# Altium footprint library Tranzistor.PcbLib: 241 footprints (part 5 of 16)
Each footprint in its own frame and in the unit in brackets; x right, y up, seen from the top. Pads: shape width x height; smd on the part's side, far side on the other; paste and mask are expansions set on the pad; w line width, h text height; cw(c..) or ccw(c..) is an arc to the next point about the centre after c.
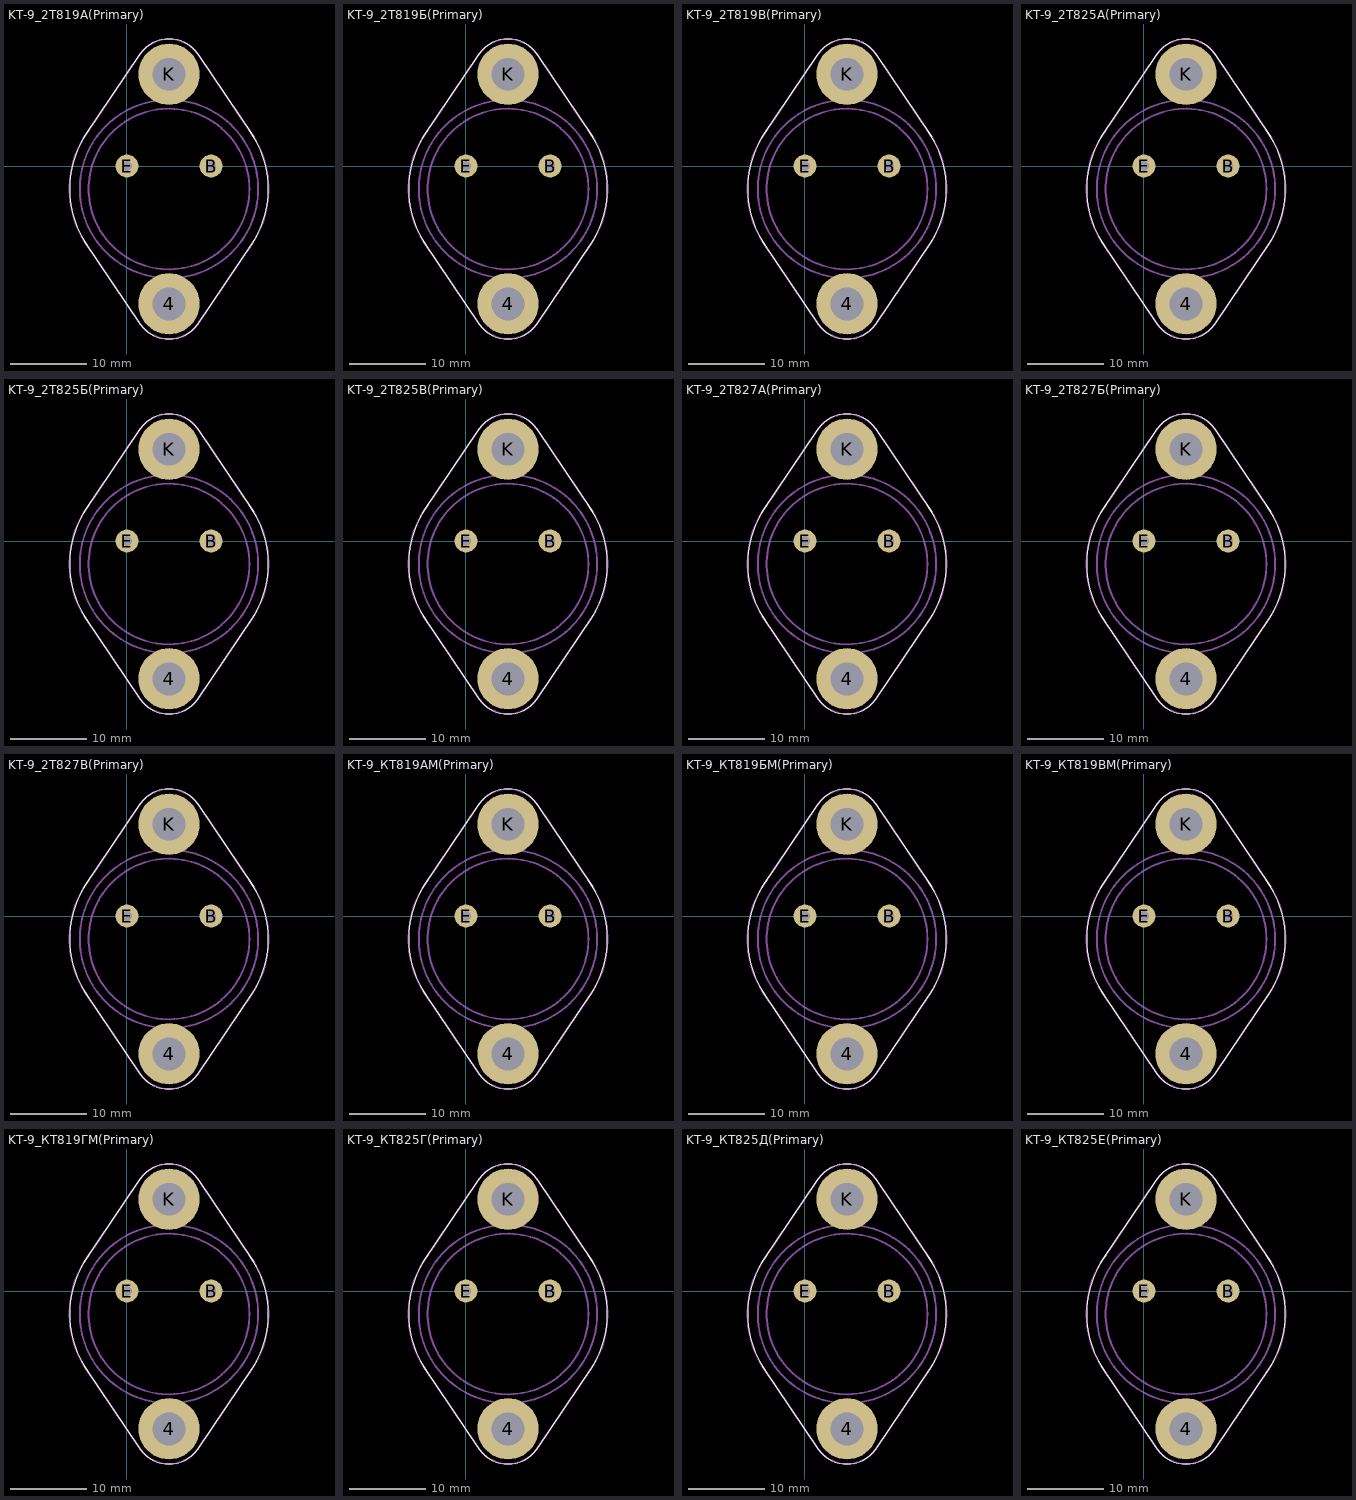
[diagram p4: the footprints below, top view; thin cyan lines are the x and y axes]

## KT-9_2Т819А(Primary) [mm]
pads (4):
  round 8 hole 4.3: 4(5.5,-18) K(5.5,12)
  round 3 hole 1.3: B(11,0) E(0,0)
Top Overlay:
  lines w0.1: -5.547,-9.854 1.762,-20.681 ; -5.547,3.855 1.762,14.683 ; -4.991,-10.677 cw(c5.5,-2.999) -4.978,4.697 ; 1.611,-20.457 ccw(c5.5,-17.999) 9.383,-20.464 ; 1.616,14.466 cw(c5.5,12.001) 9.388,14.459 ; 9.237,-20.681 16.546,-9.854 ; 9.237,14.683 16.546,3.855 ; 15.977,-10.695 ccw(c5.5,-2.999) 15.99,4.679
Mechanical 1:
  circle w0.25: c5.5,-2.999 r11.654
  circle w0.25: c5.5,-2.999 r10.5
  circle w0.25: c5.5,12.001 r2.05
  circle w0.25: c5.5,-17.999 r2.05
  lines w0.25: -5.547,-9.854 1.762,-20.681 ; -5.547,3.855 1.762,14.683 ; -4.991,-10.677 cw(c5.5,-2.999) -4.978,4.697 ; 1.611,-20.457 ccw(c5.5,-17.999) 9.383,-20.464 ; 1.616,14.466 cw(c5.5,12.001) 9.388,14.459 ; 9.237,-20.681 16.546,-9.854 ; 9.237,14.683 16.546,3.855 ; 15.977,-10.695 ccw(c5.5,-2.999) 15.99,4.679
  text "К" at 10,8.75 h1.5
  text "Б" at 10.5,1.75 h1.5
  text "Э" at -0.5,1.75 h1.5

## KT-9_2Т819Б(Primary) [mm]
pads (4):
  round 8 hole 4.3: 4(5.5,-18) K(5.5,12)
  round 3 hole 1.3: B(11,0) E(0,0)
Top Overlay:
  lines w0.1: -5.547,-9.854 1.762,-20.681 ; -5.547,3.855 1.762,14.683 ; -4.991,-10.677 cw(c5.5,-2.999) -4.978,4.697 ; 1.611,-20.457 ccw(c5.5,-17.999) 9.383,-20.464 ; 1.616,14.466 cw(c5.5,12.001) 9.388,14.459 ; 9.237,-20.681 16.546,-9.854 ; 9.237,14.683 16.546,3.855 ; 15.977,-10.695 ccw(c5.5,-2.999) 15.99,4.679
Mechanical 1:
  circle w0.25: c5.5,-2.999 r11.654
  circle w0.25: c5.5,-2.999 r10.5
  circle w0.25: c5.5,12.001 r2.05
  circle w0.25: c5.5,-17.999 r2.05
  lines w0.25: -5.547,-9.854 1.762,-20.681 ; -5.547,3.855 1.762,14.683 ; -4.991,-10.677 cw(c5.5,-2.999) -4.978,4.697 ; 1.611,-20.457 ccw(c5.5,-17.999) 9.383,-20.464 ; 1.616,14.466 cw(c5.5,12.001) 9.388,14.459 ; 9.237,-20.681 16.546,-9.854 ; 9.237,14.683 16.546,3.855 ; 15.977,-10.695 ccw(c5.5,-2.999) 15.99,4.679
  text "К" at 10,8.75 h1.5
  text "Б" at 10.5,1.75 h1.5
  text "Э" at -0.5,1.75 h1.5

## KT-9_2Т819В(Primary) [mm]
pads (4):
  round 8 hole 4.3: 4(5.5,-18) K(5.5,12)
  round 3 hole 1.3: B(11,0) E(0,0)
Top Overlay:
  lines w0.1: -5.547,-9.854 1.762,-20.681 ; -5.547,3.855 1.762,14.683 ; -4.991,-10.677 cw(c5.5,-2.999) -4.978,4.697 ; 1.611,-20.457 ccw(c5.5,-17.999) 9.383,-20.464 ; 1.616,14.466 cw(c5.5,12.001) 9.388,14.459 ; 9.237,-20.681 16.546,-9.854 ; 9.237,14.683 16.546,3.855 ; 15.977,-10.695 ccw(c5.5,-2.999) 15.99,4.679
Mechanical 1:
  circle w0.25: c5.5,-2.999 r11.654
  circle w0.25: c5.5,-2.999 r10.5
  circle w0.25: c5.5,12.001 r2.05
  circle w0.25: c5.5,-17.999 r2.05
  lines w0.25: -5.547,-9.854 1.762,-20.681 ; -5.547,3.855 1.762,14.683 ; -4.991,-10.677 cw(c5.5,-2.999) -4.978,4.697 ; 1.611,-20.457 ccw(c5.5,-17.999) 9.383,-20.464 ; 1.616,14.466 cw(c5.5,12.001) 9.388,14.459 ; 9.237,-20.681 16.546,-9.854 ; 9.237,14.683 16.546,3.855 ; 15.977,-10.695 ccw(c5.5,-2.999) 15.99,4.679
  text "К" at 10,8.75 h1.5
  text "Б" at 10.5,1.75 h1.5
  text "Э" at -0.5,1.75 h1.5

## KT-9_2Т825А(Primary) [mm]
pads (4):
  round 8 hole 4.3: 4(5.5,-18) K(5.5,12)
  round 3 hole 1.3: B(11,0) E(0,0)
Top Overlay:
  lines w0.1: -5.547,-9.854 1.762,-20.681 ; -5.547,3.855 1.762,14.683 ; -4.991,-10.677 cw(c5.5,-2.999) -4.978,4.697 ; 1.611,-20.457 ccw(c5.5,-17.999) 9.383,-20.464 ; 1.616,14.466 cw(c5.5,12.001) 9.388,14.459 ; 9.237,-20.681 16.546,-9.854 ; 9.237,14.683 16.546,3.855 ; 15.977,-10.695 ccw(c5.5,-2.999) 15.99,4.679
Mechanical 1:
  circle w0.25: c5.5,-2.999 r11.654
  circle w0.25: c5.5,-2.999 r10.5
  circle w0.25: c5.5,12.001 r2.05
  circle w0.25: c5.5,-17.999 r2.05
  lines w0.25: -5.547,-9.854 1.762,-20.681 ; -5.547,3.855 1.762,14.683 ; -4.991,-10.677 cw(c5.5,-2.999) -4.978,4.697 ; 1.611,-20.457 ccw(c5.5,-17.999) 9.383,-20.464 ; 1.616,14.466 cw(c5.5,12.001) 9.388,14.459 ; 9.237,-20.681 16.546,-9.854 ; 9.237,14.683 16.546,3.855 ; 15.977,-10.695 ccw(c5.5,-2.999) 15.99,4.679
  text "К" at 10,8.75 h1.5
  text "Б" at 10.5,1.75 h1.5
  text "Э" at -0.5,1.75 h1.5

## KT-9_2Т825Б(Primary) [mm]
pads (4):
  round 8 hole 4.3: 4(5.5,-18) K(5.5,12)
  round 3 hole 1.3: B(11,0) E(0,0)
Top Overlay:
  lines w0.1: -5.547,-9.854 1.762,-20.681 ; -5.547,3.855 1.762,14.683 ; -4.991,-10.677 cw(c5.5,-2.999) -4.978,4.697 ; 1.611,-20.457 ccw(c5.5,-17.999) 9.383,-20.464 ; 1.616,14.466 cw(c5.5,12.001) 9.388,14.459 ; 9.237,-20.681 16.546,-9.854 ; 9.237,14.683 16.546,3.855 ; 15.977,-10.695 ccw(c5.5,-2.999) 15.99,4.679
Mechanical 1:
  circle w0.25: c5.5,-2.999 r11.654
  circle w0.25: c5.5,-2.999 r10.5
  circle w0.25: c5.5,12.001 r2.05
  circle w0.25: c5.5,-17.999 r2.05
  lines w0.25: -5.547,-9.854 1.762,-20.681 ; -5.547,3.855 1.762,14.683 ; -4.991,-10.677 cw(c5.5,-2.999) -4.978,4.697 ; 1.611,-20.457 ccw(c5.5,-17.999) 9.383,-20.464 ; 1.616,14.466 cw(c5.5,12.001) 9.388,14.459 ; 9.237,-20.681 16.546,-9.854 ; 9.237,14.683 16.546,3.855 ; 15.977,-10.695 ccw(c5.5,-2.999) 15.99,4.679
  text "К" at 10,8.75 h1.5
  text "Б" at 10.5,1.75 h1.5
  text "Э" at -0.5,1.75 h1.5

## KT-9_2Т825В(Primary) [mm]
pads (4):
  round 8 hole 4.3: 4(5.5,-18) K(5.5,12)
  round 3 hole 1.3: B(11,0) E(0,0)
Top Overlay:
  lines w0.1: -5.547,-9.854 1.762,-20.681 ; -5.547,3.855 1.762,14.683 ; -4.991,-10.677 cw(c5.5,-2.999) -4.978,4.697 ; 1.611,-20.457 ccw(c5.5,-17.999) 9.383,-20.464 ; 1.616,14.466 cw(c5.5,12.001) 9.388,14.459 ; 9.237,-20.681 16.546,-9.854 ; 9.237,14.683 16.546,3.855 ; 15.977,-10.695 ccw(c5.5,-2.999) 15.99,4.679
Mechanical 1:
  circle w0.25: c5.5,-2.999 r11.654
  circle w0.25: c5.5,-2.999 r10.5
  circle w0.25: c5.5,12.001 r2.05
  circle w0.25: c5.5,-17.999 r2.05
  lines w0.25: -5.547,-9.854 1.762,-20.681 ; -5.547,3.855 1.762,14.683 ; -4.991,-10.677 cw(c5.5,-2.999) -4.978,4.697 ; 1.611,-20.457 ccw(c5.5,-17.999) 9.383,-20.464 ; 1.616,14.466 cw(c5.5,12.001) 9.388,14.459 ; 9.237,-20.681 16.546,-9.854 ; 9.237,14.683 16.546,3.855 ; 15.977,-10.695 ccw(c5.5,-2.999) 15.99,4.679
  text "К" at 10,8.75 h1.5
  text "Б" at 10.5,1.75 h1.5
  text "Э" at -0.5,1.75 h1.5

## KT-9_2Т827А(Primary) [mm]
pads (4):
  round 8 hole 4.3: 4(5.5,-18) K(5.5,12)
  round 3 hole 1.3: B(11,0) E(0,0)
Top Overlay:
  lines w0.1: -5.547,-9.854 1.762,-20.681 ; -5.547,3.855 1.762,14.683 ; -4.991,-10.677 cw(c5.5,-2.999) -4.978,4.697 ; 1.611,-20.457 ccw(c5.5,-17.999) 9.383,-20.464 ; 1.616,14.466 cw(c5.5,12.001) 9.388,14.459 ; 9.237,-20.681 16.546,-9.854 ; 9.237,14.683 16.546,3.855 ; 15.977,-10.695 ccw(c5.5,-2.999) 15.99,4.679
Mechanical 1:
  circle w0.25: c5.5,-2.999 r11.654
  circle w0.25: c5.5,-2.999 r10.5
  circle w0.25: c5.5,12.001 r2.05
  circle w0.25: c5.5,-17.999 r2.05
  lines w0.25: -5.547,-9.854 1.762,-20.681 ; -5.547,3.855 1.762,14.683 ; -4.991,-10.677 cw(c5.5,-2.999) -4.978,4.697 ; 1.611,-20.457 ccw(c5.5,-17.999) 9.383,-20.464 ; 1.616,14.466 cw(c5.5,12.001) 9.388,14.459 ; 9.237,-20.681 16.546,-9.854 ; 9.237,14.683 16.546,3.855 ; 15.977,-10.695 ccw(c5.5,-2.999) 15.99,4.679
  text "К" at 10,8.75 h1.5
  text "Б" at 10.5,1.75 h1.5
  text "Э" at -0.5,1.75 h1.5

## KT-9_2Т827Б(Primary) [mm]
pads (4):
  round 8 hole 4.3: 4(5.5,-18) K(5.5,12)
  round 3 hole 1.3: B(11,0) E(0,0)
Top Overlay:
  lines w0.1: -5.547,-9.854 1.762,-20.681 ; -5.547,3.855 1.762,14.683 ; -4.991,-10.677 cw(c5.5,-2.999) -4.978,4.697 ; 1.611,-20.457 ccw(c5.5,-17.999) 9.383,-20.464 ; 1.616,14.466 cw(c5.5,12.001) 9.388,14.459 ; 9.237,-20.681 16.546,-9.854 ; 9.237,14.683 16.546,3.855 ; 15.977,-10.695 ccw(c5.5,-2.999) 15.99,4.679
Mechanical 1:
  circle w0.25: c5.5,-2.999 r11.654
  circle w0.25: c5.5,-2.999 r10.5
  circle w0.25: c5.5,12.001 r2.05
  circle w0.25: c5.5,-17.999 r2.05
  lines w0.25: -5.547,-9.854 1.762,-20.681 ; -5.547,3.855 1.762,14.683 ; -4.991,-10.677 cw(c5.5,-2.999) -4.978,4.697 ; 1.611,-20.457 ccw(c5.5,-17.999) 9.383,-20.464 ; 1.616,14.466 cw(c5.5,12.001) 9.388,14.459 ; 9.237,-20.681 16.546,-9.854 ; 9.237,14.683 16.546,3.855 ; 15.977,-10.695 ccw(c5.5,-2.999) 15.99,4.679
  text "К" at 10,8.75 h1.5
  text "Б" at 10.5,1.75 h1.5
  text "Э" at -0.5,1.75 h1.5

## KT-9_2Т827В(Primary) [mm]
pads (4):
  round 8 hole 4.3: 4(5.5,-18) K(5.5,12)
  round 3 hole 1.3: B(11,0) E(0,0)
Top Overlay:
  lines w0.1: -5.547,-9.854 1.762,-20.681 ; -5.547,3.855 1.762,14.683 ; -4.991,-10.677 cw(c5.5,-2.999) -4.978,4.697 ; 1.611,-20.457 ccw(c5.5,-17.999) 9.383,-20.464 ; 1.616,14.466 cw(c5.5,12.001) 9.388,14.459 ; 9.237,-20.681 16.546,-9.854 ; 9.237,14.683 16.546,3.855 ; 15.977,-10.695 ccw(c5.5,-2.999) 15.99,4.679
Mechanical 1:
  circle w0.25: c5.5,-2.999 r11.654
  circle w0.25: c5.5,-2.999 r10.5
  circle w0.25: c5.5,12.001 r2.05
  circle w0.25: c5.5,-17.999 r2.05
  lines w0.25: -5.547,-9.854 1.762,-20.681 ; -5.547,3.855 1.762,14.683 ; -4.991,-10.677 cw(c5.5,-2.999) -4.978,4.697 ; 1.611,-20.457 ccw(c5.5,-17.999) 9.383,-20.464 ; 1.616,14.466 cw(c5.5,12.001) 9.388,14.459 ; 9.237,-20.681 16.546,-9.854 ; 9.237,14.683 16.546,3.855 ; 15.977,-10.695 ccw(c5.5,-2.999) 15.99,4.679
  text "К" at 10,8.75 h1.5
  text "Б" at 10.5,1.75 h1.5
  text "Э" at -0.5,1.75 h1.5

## KT-9_КТ819АМ(Primary) [mm]
pads (4):
  round 8 hole 4.3: 4(5.5,-18) K(5.5,12)
  round 3 hole 1.3: B(11,0) E(0,0)
Top Overlay:
  lines w0.1: -5.547,-9.854 1.762,-20.681 ; -5.547,3.855 1.762,14.683 ; -4.991,-10.677 cw(c5.5,-2.999) -4.978,4.697 ; 1.611,-20.457 ccw(c5.5,-17.999) 9.383,-20.464 ; 1.616,14.466 cw(c5.5,12.001) 9.388,14.459 ; 9.237,-20.681 16.546,-9.854 ; 9.237,14.683 16.546,3.855 ; 15.977,-10.695 ccw(c5.5,-2.999) 15.99,4.679
Mechanical 1:
  circle w0.25: c5.5,-2.999 r11.654
  circle w0.25: c5.5,-2.999 r10.5
  circle w0.25: c5.5,12.001 r2.05
  circle w0.25: c5.5,-17.999 r2.05
  lines w0.25: -5.547,-9.854 1.762,-20.681 ; -5.547,3.855 1.762,14.683 ; -4.991,-10.677 cw(c5.5,-2.999) -4.978,4.697 ; 1.611,-20.457 ccw(c5.5,-17.999) 9.383,-20.464 ; 1.616,14.466 cw(c5.5,12.001) 9.388,14.459 ; 9.237,-20.681 16.546,-9.854 ; 9.237,14.683 16.546,3.855 ; 15.977,-10.695 ccw(c5.5,-2.999) 15.99,4.679
  text "К" at 10,8.75 h1.5
  text "Б" at 10.5,1.75 h1.5
  text "Э" at -0.5,1.75 h1.5

## KT-9_КТ819БМ(Primary) [mm]
pads (4):
  round 8 hole 4.3: 4(5.5,-18) K(5.5,12)
  round 3 hole 1.3: B(11,0) E(0,0)
Top Overlay:
  lines w0.1: -5.547,-9.854 1.762,-20.681 ; -5.547,3.855 1.762,14.683 ; -4.991,-10.677 cw(c5.5,-2.999) -4.978,4.697 ; 1.611,-20.457 ccw(c5.5,-17.999) 9.383,-20.464 ; 1.616,14.466 cw(c5.5,12.001) 9.388,14.459 ; 9.237,-20.681 16.546,-9.854 ; 9.237,14.683 16.546,3.855 ; 15.977,-10.695 ccw(c5.5,-2.999) 15.99,4.679
Mechanical 1:
  circle w0.25: c5.5,-2.999 r11.654
  circle w0.25: c5.5,-2.999 r10.5
  circle w0.25: c5.5,12.001 r2.05
  circle w0.25: c5.5,-17.999 r2.05
  lines w0.25: -5.547,-9.854 1.762,-20.681 ; -5.547,3.855 1.762,14.683 ; -4.991,-10.677 cw(c5.5,-2.999) -4.978,4.697 ; 1.611,-20.457 ccw(c5.5,-17.999) 9.383,-20.464 ; 1.616,14.466 cw(c5.5,12.001) 9.388,14.459 ; 9.237,-20.681 16.546,-9.854 ; 9.237,14.683 16.546,3.855 ; 15.977,-10.695 ccw(c5.5,-2.999) 15.99,4.679
  text "К" at 10,8.75 h1.5
  text "Б" at 10.5,1.75 h1.5
  text "Э" at -0.5,1.75 h1.5

## KT-9_КТ819ВМ(Primary) [mm]
pads (4):
  round 8 hole 4.3: 4(5.5,-18) K(5.5,12)
  round 3 hole 1.3: B(11,0) E(0,0)
Top Overlay:
  lines w0.1: -5.547,-9.854 1.762,-20.681 ; -5.547,3.855 1.762,14.683 ; -4.991,-10.677 cw(c5.5,-2.999) -4.978,4.697 ; 1.611,-20.457 ccw(c5.5,-17.999) 9.383,-20.464 ; 1.616,14.466 cw(c5.5,12.001) 9.388,14.459 ; 9.237,-20.681 16.546,-9.854 ; 9.237,14.683 16.546,3.855 ; 15.977,-10.695 ccw(c5.5,-2.999) 15.99,4.679
Mechanical 1:
  circle w0.25: c5.5,-2.999 r11.654
  circle w0.25: c5.5,-2.999 r10.5
  circle w0.25: c5.5,12.001 r2.05
  circle w0.25: c5.5,-17.999 r2.05
  lines w0.25: -5.547,-9.854 1.762,-20.681 ; -5.547,3.855 1.762,14.683 ; -4.991,-10.677 cw(c5.5,-2.999) -4.978,4.697 ; 1.611,-20.457 ccw(c5.5,-17.999) 9.383,-20.464 ; 1.616,14.466 cw(c5.5,12.001) 9.388,14.459 ; 9.237,-20.681 16.546,-9.854 ; 9.237,14.683 16.546,3.855 ; 15.977,-10.695 ccw(c5.5,-2.999) 15.99,4.679
  text "К" at 10,8.75 h1.5
  text "Б" at 10.5,1.75 h1.5
  text "Э" at -0.5,1.75 h1.5

## KT-9_КТ819ГМ(Primary) [mm]
pads (4):
  round 8 hole 4.3: 4(5.5,-18) K(5.5,12)
  round 3 hole 1.3: B(11,0) E(0,0)
Top Overlay:
  lines w0.1: -5.547,-9.854 1.762,-20.681 ; -5.547,3.855 1.762,14.683 ; -4.991,-10.677 cw(c5.5,-2.999) -4.978,4.697 ; 1.611,-20.457 ccw(c5.5,-17.999) 9.383,-20.464 ; 1.616,14.466 cw(c5.5,12.001) 9.388,14.459 ; 9.237,-20.681 16.546,-9.854 ; 9.237,14.683 16.546,3.855 ; 15.977,-10.695 ccw(c5.5,-2.999) 15.99,4.679
Mechanical 1:
  circle w0.25: c5.5,-2.999 r11.654
  circle w0.25: c5.5,-2.999 r10.5
  circle w0.25: c5.5,12.001 r2.05
  circle w0.25: c5.5,-17.999 r2.05
  lines w0.25: -5.547,-9.854 1.762,-20.681 ; -5.547,3.855 1.762,14.683 ; -4.991,-10.677 cw(c5.5,-2.999) -4.978,4.697 ; 1.611,-20.457 ccw(c5.5,-17.999) 9.383,-20.464 ; 1.616,14.466 cw(c5.5,12.001) 9.388,14.459 ; 9.237,-20.681 16.546,-9.854 ; 9.237,14.683 16.546,3.855 ; 15.977,-10.695 ccw(c5.5,-2.999) 15.99,4.679
  text "К" at 10,8.75 h1.5
  text "Б" at 10.5,1.75 h1.5
  text "Э" at -0.5,1.75 h1.5

## KT-9_КТ825Г(Primary) [mm]
pads (4):
  round 8 hole 4.3: 4(5.5,-18) K(5.5,12)
  round 3 hole 1.3: B(11,0) E(0,0)
Top Overlay:
  lines w0.1: -5.547,-9.854 1.762,-20.681 ; -5.547,3.855 1.762,14.683 ; -4.991,-10.677 cw(c5.5,-2.999) -4.978,4.697 ; 1.611,-20.457 ccw(c5.5,-17.999) 9.383,-20.464 ; 1.616,14.466 cw(c5.5,12.001) 9.388,14.459 ; 9.237,-20.681 16.546,-9.854 ; 9.237,14.683 16.546,3.855 ; 15.977,-10.695 ccw(c5.5,-2.999) 15.99,4.679
Mechanical 1:
  circle w0.25: c5.5,-2.999 r11.654
  circle w0.25: c5.5,-2.999 r10.5
  circle w0.25: c5.5,12.001 r2.05
  circle w0.25: c5.5,-17.999 r2.05
  lines w0.25: -5.547,-9.854 1.762,-20.681 ; -5.547,3.855 1.762,14.683 ; -4.991,-10.677 cw(c5.5,-2.999) -4.978,4.697 ; 1.611,-20.457 ccw(c5.5,-17.999) 9.383,-20.464 ; 1.616,14.466 cw(c5.5,12.001) 9.388,14.459 ; 9.237,-20.681 16.546,-9.854 ; 9.237,14.683 16.546,3.855 ; 15.977,-10.695 ccw(c5.5,-2.999) 15.99,4.679
  text "К" at 10,8.75 h1.5
  text "Б" at 10.5,1.75 h1.5
  text "Э" at -0.5,1.75 h1.5

## KT-9_КТ825Д(Primary) [mm]
pads (4):
  round 8 hole 4.3: 4(5.5,-18) K(5.5,12)
  round 3 hole 1.3: B(11,0) E(0,0)
Top Overlay:
  lines w0.1: -5.547,-9.854 1.762,-20.681 ; -5.547,3.855 1.762,14.683 ; -4.991,-10.677 cw(c5.5,-2.999) -4.978,4.697 ; 1.611,-20.457 ccw(c5.5,-17.999) 9.383,-20.464 ; 1.616,14.466 cw(c5.5,12.001) 9.388,14.459 ; 9.237,-20.681 16.546,-9.854 ; 9.237,14.683 16.546,3.855 ; 15.977,-10.695 ccw(c5.5,-2.999) 15.99,4.679
Mechanical 1:
  circle w0.25: c5.5,-2.999 r11.654
  circle w0.25: c5.5,-2.999 r10.5
  circle w0.25: c5.5,12.001 r2.05
  circle w0.25: c5.5,-17.999 r2.05
  lines w0.25: -5.547,-9.854 1.762,-20.681 ; -5.547,3.855 1.762,14.683 ; -4.991,-10.677 cw(c5.5,-2.999) -4.978,4.697 ; 1.611,-20.457 ccw(c5.5,-17.999) 9.383,-20.464 ; 1.616,14.466 cw(c5.5,12.001) 9.388,14.459 ; 9.237,-20.681 16.546,-9.854 ; 9.237,14.683 16.546,3.855 ; 15.977,-10.695 ccw(c5.5,-2.999) 15.99,4.679
  text "К" at 10,8.75 h1.5
  text "Б" at 10.5,1.75 h1.5
  text "Э" at -0.5,1.75 h1.5

## KT-9_КТ825Е(Primary) [mm]
pads (4):
  round 8 hole 4.3: 4(5.5,-18) K(5.5,12)
  round 3 hole 1.3: B(11,0) E(0,0)
Top Overlay:
  lines w0.1: -5.547,-9.854 1.762,-20.681 ; -5.547,3.855 1.762,14.683 ; -4.991,-10.677 cw(c5.5,-2.999) -4.978,4.697 ; 1.611,-20.457 ccw(c5.5,-17.999) 9.383,-20.464 ; 1.616,14.466 cw(c5.5,12.001) 9.388,14.459 ; 9.237,-20.681 16.546,-9.854 ; 9.237,14.683 16.546,3.855 ; 15.977,-10.695 ccw(c5.5,-2.999) 15.99,4.679
Mechanical 1:
  circle w0.25: c5.5,-2.999 r11.654
  circle w0.25: c5.5,-2.999 r10.5
  circle w0.25: c5.5,12.001 r2.05
  circle w0.25: c5.5,-17.999 r2.05
  lines w0.25: -5.547,-9.854 1.762,-20.681 ; -5.547,3.855 1.762,14.683 ; -4.991,-10.677 cw(c5.5,-2.999) -4.978,4.697 ; 1.611,-20.457 ccw(c5.5,-17.999) 9.383,-20.464 ; 1.616,14.466 cw(c5.5,12.001) 9.388,14.459 ; 9.237,-20.681 16.546,-9.854 ; 9.237,14.683 16.546,3.855 ; 15.977,-10.695 ccw(c5.5,-2.999) 15.99,4.679
  text "К" at 10,8.75 h1.5
  text "Б" at 10.5,1.75 h1.5
  text "Э" at -0.5,1.75 h1.5